# Altium integrated library 826949-4.IntLib: 1 symbol
Pins are listed as number, name and electrical type; pins without a type are passive.

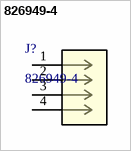
[diagram p0: symbol 826949-4]

## 826949-4
designator J?
No Description Available; Mfr_Name: TE Connectivity; Copyright: Copyright (C) 2024 Ultra Librarian. All rights reserved.; Manufacturer_Part_Number: 826949-4; Digi-Key_Part_Number_1: 826949-4-ND; RefDes: RefDes; Type: DEV
footprint CON4_1X4_P100RM_HDR_TYC
pins: 1, 2, 3, 4